# EAGLE library part BH1730FVC (library Deegou_IC)
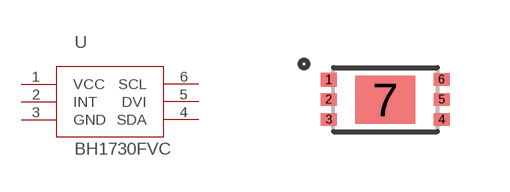
[diagram p164: symbol with the pads of WSOF6; footprint WSOF6]

Designator prefix U

## BH1730FVC  [WSOF6]
1  VCC
2  INT
3  GND
4  SDA
5  DVI
6  SCL

## Footprint WSOF6 (pad centres in mm)
smd 0.4 x 0.35: 1 -1.41,0.5
smd 0.4 x 0.32: 2 -1.41,0; 3 -1.41,-0.5; 4 1.41,-0.5; 5 1.41,0; 6 1.41,0.5
smd 1.5 x 1.2: 7 0,0